# Altium footprint library PcbLib2.PcbLib: 32 footprints (part 1 of 2)
Each footprint in its own frame and in the unit in brackets; x right, y up, seen from the top. Pads: shape width x height; smd on the part's side, far side on the other; paste and mask are expansions set on the pad; w line width, h text height; cw(c..) or ccw(c..) is an arc to the next point about the centre after c.
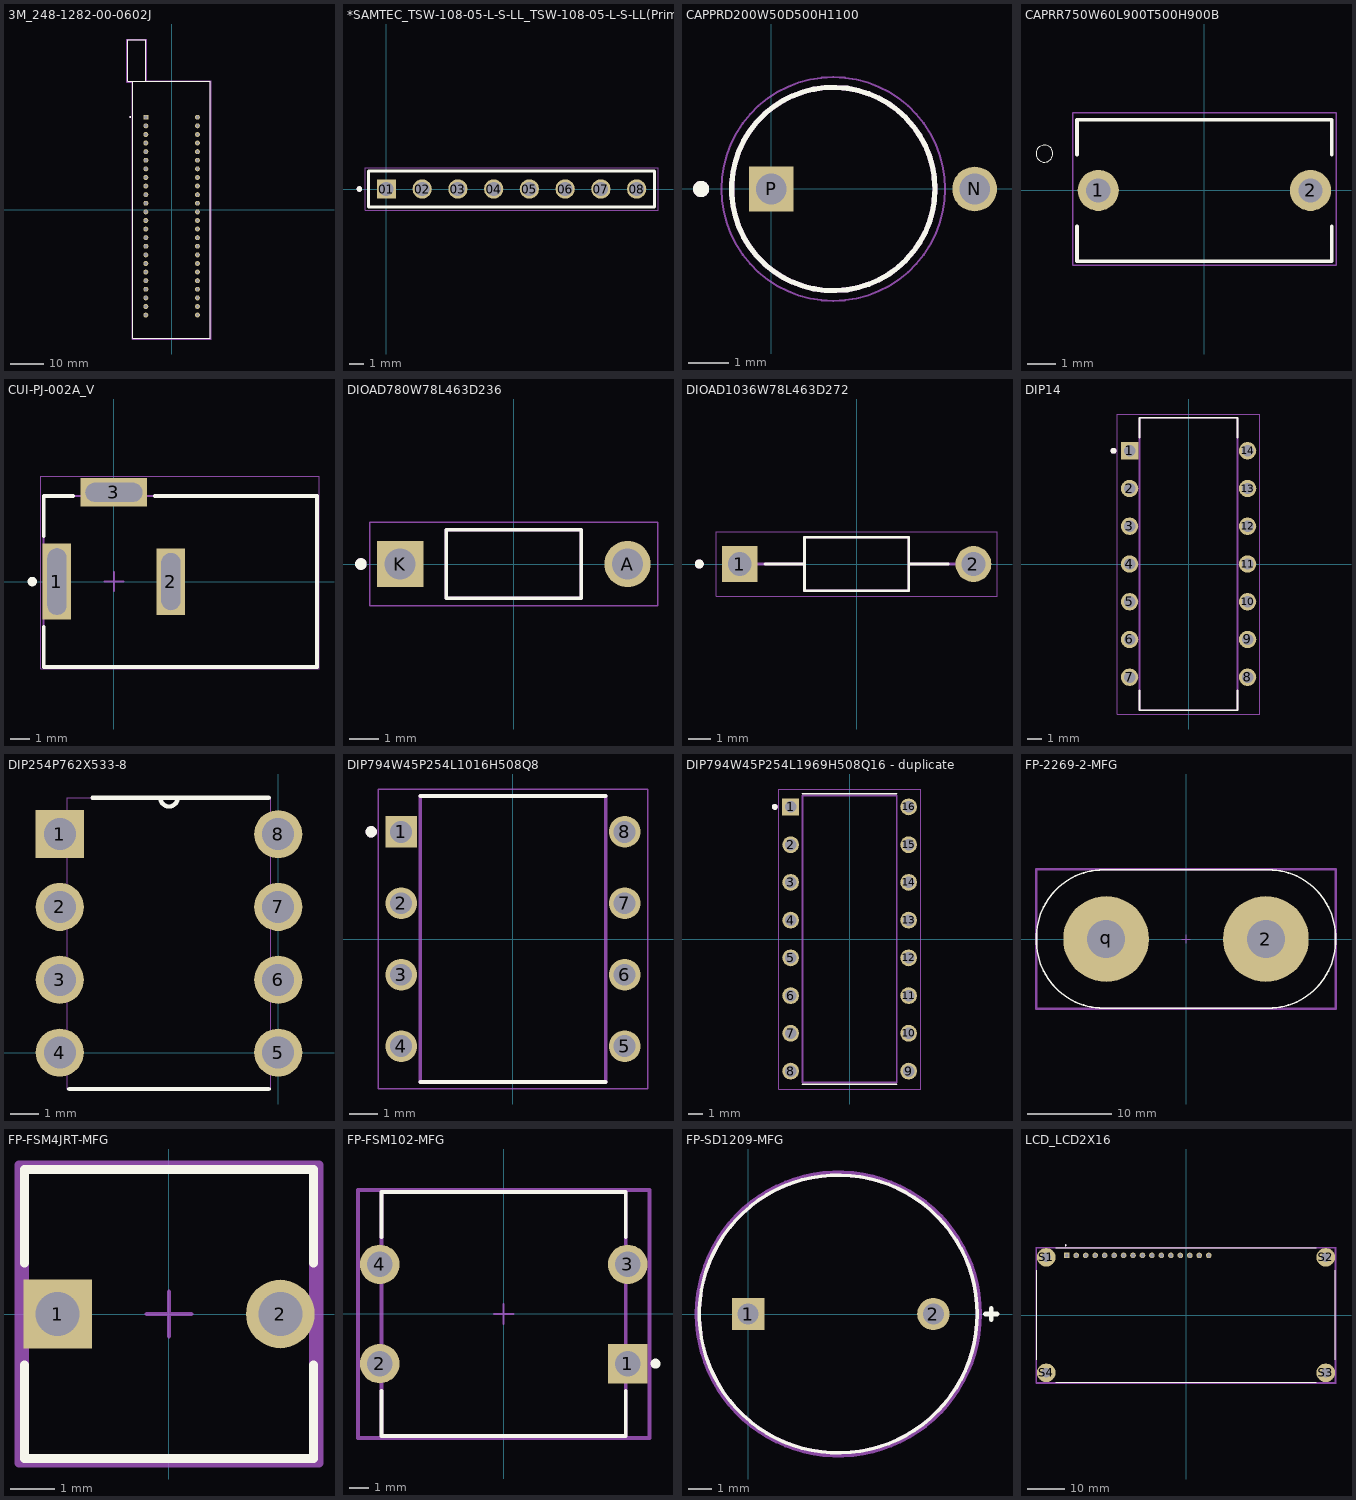
[diagram p0: the footprints below, top view; thin cyan lines are the x and y axes]

## 3M_248-1282-00-0602J [mm]
pads (48):
  rect 1.46x1.46 hole 0.97: 1(-7.62,27.34)
  round 1.46 hole 0.97: 2(-7.62,24.8) 3(-7.62,22.26) 4(-7.62,19.72) 5(-7.62,17.18) 6(-7.62,14.64) 7(-7.62,12.1) 8(-7.62,9.56) 9(-7.62,7.02) 10(-7.62,4.48) 11(-7.62,1.94) 12(-7.62,-0.6) 13(-7.62,-3.14) 14(-7.62,-5.68) 15(-7.62,-8.22) 16(-7.62,-10.76) 17(-7.62,-13.3) 18(-7.62,-15.84) 19(-7.62,-18.38) 20(-7.62,-20.92) 21(-7.62,-23.46) 22(-7.62,-26) 23(-7.62,-28.54) 24(-7.62,-31.08) 25(7.62,-31.08) 26(7.62,-28.54) 27(7.62,-26) 28(7.62,-23.46) 29(7.62,-20.92) 30(7.62,-18.38) 31(7.62,-15.84) 32(7.62,-13.3) 33(7.62,-10.76) 34(7.62,-8.22) 35(7.62,-5.68) 36(7.62,-3.14) 37(7.62,-0.6) 38(7.62,1.94) 39(7.62,4.48) 40(7.62,7.02) 41(7.62,9.56) 42(7.62,12.1) 43(7.62,14.64) 44(7.62,17.18) 45(7.62,19.72) 46(7.62,22.26) 47(7.62,24.8) 48(7.62,27.34)
Top Overlay:
  circle w0.2: c-12.2,27.4 r0.1
  lines w0.127: -7.625,37.9 -7.625,50.2 -13,50.2 -13,37.9 -11.45,37.9 ; -11.45,37.9 11.45,37.9 11.45,-37.9 -11.45,-37.9 -11.45,37.9
Mechanical 13:
  circle w0.2: c-12.2,27.4 r0.1
  lines w0.127: -11.45,37.9 -7.625,37.9 ; -11.45,37.9 -11.45,-37.9 11.45,-37.9 11.45,37.9 -7.625,37.9 ; -11.45,37.9 -13,37.9 -13,50.2 -7.625,50.2 -7.625,37.9
Mechanical 15:
  lines w0.05: -13.25,37.65 -11.7,37.65 -11.7,-38.15 11.7,-38.15 11.7,38.15 -7.375,38.15 -7.375,50.45 -13.25,50.45 -13.25,37.65
3D body "248-1282-00-0602J--3DModel-STEP-56544.STEP": height 23.62, standoff -2.79, extent -11.874,-37.338 11.874,38.354

## *SAMTEC_TSW-108-05-L-S-LL_TSW-108-05-L-S-LL(Primary) [mm]
pads (8):
  rect 1.37x1.37 hole 1.02: 01(0,0)
  round 1.37 hole 1.02: 02(2.54,0) 03(5.08,0) 04(7.62,0) 05(10.16,0) 06(12.7,0) 07(15.24,0) 08(17.78,0)
Top Overlay:
  circle w0.2: c-1.92,0 r0.1
  lines w0.2: -1.27,-1.27 19.05,-1.27 19.05,1.27 -1.27,1.27 -1.27,-1.27
Mechanical 4:
  circle w0.2: c-1.92,0 r0.1
  circle w0.2: c-1.92,0 r0.1
  lines w0.1: -1.27,-1.27 -1.27,1.27 ; -1.27,-1.27 19.05,-1.27 ; -1.27,-1.27 -1.27,1.27 ; -1.27,-1.27 -1.27,1.27 ; -1.27,-1.27 19.05,-1.27 ; -1.27,-1.27 -1.27,1.27 ; -1.27,1.27 19.05,1.27 ; -1.27,1.27 19.05,1.27 ; -1.27,1.27 19.05,1.27 ; -1.27,1.27 19.05,1.27 ; 19.05,-1.27 19.05,1.27 ; 19.05,-1.27 19.05,1.27 ; 19.05,-1.27 19.05,1.27 ; 19.05,-1.27 19.05,1.27
Mechanical 16:
  lines w0.05: -1.52,-1.52 19.3,-1.52 19.3,1.52 -1.52,1.52 -1.52,-1.52
3D body "TSW-108-05-L-S-LL.stp": height 5.21, standoff -3.3, extent -1.27,-1.27 19.177,1.27

## CAPPRD200W50D500H1100 [mm]
pads (2):
  round 1.1 hole 0.75: N(5,0)
  rect 1.1x1.1 hole 0.75: P(0,0)
Top Overlay:
  circle w0.2: c-1.726,0 r0.1
  circle w0.127: c1.524,0 r2.5
Mechanical 13:
  circle w0.2: c-1.726,0 r0.1
  circle w0.127: c1.524,0 r2.5
Mechanical 15:
  circle w0.05: c1.524,0 r2.75
3D body "step_temp.STEP": height 11, standoff -17, extent -0.976,-2.498 4.024,2.498

## CAPRR750W60L900T500H900B [mm]
pads (2):
  round 1.45 hole 0.85: 1(-3.75,0) 2(3.75,0)
Top Overlay:
  circle w0: c-5.65,1.3 r0.3
  lines w0.127: -4.5,-1.27 -4.5,-2.5 4.5,-2.5 4.5,-1.27 ; -4.5,1.27 -4.5,2.5 4.5,2.5 4.5,1.27
Mechanical 15:
  lines w0.05: -4.65,-2.65 4.65,-2.65 4.65,2.75 -4.65,2.75 -4.65,-2.65
3D body "DE2E3KY332MA3BM02F.STEP": height 12, standoff -22, extent -4.08,-2.818 4.08,3.175

## CUI-PJ-002A_V [mm] "THD, 3-Leads, Body 14.4x9mm, Height 11mm"
height 11
pads (3):
  rect 1.5x4 hole 1 slot 3.5 at 90 deg: 1(-3,0)
  rect 1.5x3.5 hole 1 slot 3 at 90 deg: 2(3,0)
  rect 3.5x1.5 hole 1 slot 3 at 0 deg: 3(0,4.7)
Top Overlay:
  circle w0.25: c-4.3,0 r0.125
  lines w0.2: -3.7,-2.4 -3.7,-4.5 10.7,-4.5 10.7,4.5 2.15,4.5 ; -3.7,2.4 -3.7,4.5 -2.15,4.5
Mechanical 13:
  lines w0.1: -3.7,-4.5 -3.7,4.5 10.7,4.5 10.7,-4.5 -3.7,-4.5
Mechanical 15:
  lines w0.05: -3.85,-4.6 -3.85,5.55 10.8,5.55 10.8,-4.6 -3.85,-4.6
  lines w0.1: -0.5,0 0.5,0 ; 0,-0.5 0,0.5
3D body "pj-002a.stp": height 11, standoff -3.5, extent -3.7,-4.5 10.7,4.9

## DIOAD780W78L463D236 [mm]
pads (2):
  round 1.59 hole 1.06: A(3.905,0)
  rect 1.59x1.59 / inner round 1.59 / far side rect 1.59x1.59 hole 1.06: K(-3.905,0)
Top Overlay:
  circle w0.2: c-5.25,0 r0.1
  lines w0.127: -2.318,-1.18 -2.318,1.18 2.318,1.18 2.318,-1.18 -2.318,-1.18
Mechanical 13:
  circle w0.2: c-5.25,0 r0.1
  lines w0.127: -2.318,-1.18 -2.318,1.18 2.318,1.18 2.318,-1.18 -2.318,-1.18
Mechanical 15:
  lines w0.05: -4.949,-1.43 4.949,-1.43 4.949,1.43 -4.949,1.43 -4.949,-1.43
3D body "step_temp.STEP": height 2.69, standoff -21.77, extent -4.458,-1.346 6.49,1.346

## DIOAD1036W78L463D272 [mm]
height 2.72
pads (2):
  rect 1.59x1.59 / inner round 1.59 / far side rect 1.59x1.59 hole 1.06: 1(-5.18,0)
  round 1.59 hole 1.06: 2(5.18,0)
Top Overlay:
  circle w0.2: c-6.975,0 r0.1
  lines w0.127: -4.065,0 -2.315,0 ; 4.065,0 2.315,0 ; -2.315,0 -2.315,-1.188 2.315,-1.188 2.315,0 ; -2.315,0 -2.315,1.188 2.315,1.188 2.315,0
Mechanical 13:
  circle w0.2: c-6.975,0 r0.1
  lines w0.127: -5.18,0 -2.315,0 ; 5.18,0 2.315,0 ; -2.315,0 -2.315,-1.188 2.315,-1.188 2.315,0 ; -2.315,0 -2.315,1.188 2.315,1.188 2.315,0
Mechanical 15:
  lines w0.05: -6.225,-1.438 -6.225,1.438 6.225,1.438 6.225,-1.438 -6.225,-1.438
3D body "step_temp.STEP": height 2.72, standoff -21.88, extent -5.288,-1.36 5.288,1.36

## DIP14 [mm]
pads (14):
  rect 1.17x1.17 hole 0.77: 1(-3.97,7.62)
  round 1.17 hole 0.77: 2(-3.97,5.08) 3(-3.97,2.54) 4(-3.97,0) 5(-3.97,-2.54) 6(-3.97,-5.08) 7(-3.97,-7.62) 8(3.97,-7.62) 9(3.97,-5.08) 10(3.97,-2.54) 11(3.97,0) 12(3.97,2.54) 13(3.97,5.08) 14(3.97,7.62)
Top Overlay:
  circle w0.2: c-5.055,7.62 r0.1
  lines w0.127: -3.3,-8.525 -3.3,-9.845 3.3,-9.845 3.3,-8.525 ; -3.3,8.525 -3.3,9.845 3.3,9.845 3.3,8.525
Mechanical 13:
  circle w0.2: c-5.055,7.62 r0.1
  lines w0.127: -3.3,-9.845 3.3,-9.845 3.3,9.845 -3.3,9.845 -3.3,-9.845
Mechanical 15:
  lines w0.05: -4.805,-10.095 4.805,-10.095 4.805,10.095 -4.805,10.095 -4.805,-10.095
3D body "step_temp.STEP": height 5.08, standoff -3.17, extent -5.334,-9.398 5.588,9.906

## DIP254P762X533-8 [mil]
pads (8):
  rect 66x66 / inner round 66 / far side rect 66x66 hole 44: 1(-300,300)
  round 66 hole 44: 2(-300,200) 3(-300,100) 4(-300,0) 5(0,0) 6(0,100) 7(0,200) 8(0,300)
Top Overlay:
  lines w6: -287,-50 -13,-50 ; -255,350 -162,350 ; -13,350 -138,350 ; -162,350 ccw(c-150,350) -138,350 ; -162,350 -138,350
Mechanical 13:
  lines w0: -162,350 ccw(c-150,350) -138,350 ; -162,350 -138,350 ; -162,350 -290,350 -290,-50 -10,-50 -10,350 -138,350 ; -322,-22 -322,22 -290,22 -290,-22 -322,-22 ; -322,78 -322,122 -290,122 -290,78 -322,78 ; -322,178 -322,222 -290,222 -290,178 -322,178 ; -322,278 -322,322 -290,322 -290,278 -322,278 ; -10,-22 -10,22 22,22 22,-22 -10,-22 ; -10,78 -10,122 22,122 22,78 -10,78 ; -10,178 -10,222 22,222 22,178 -10,178 ; -10,278 -10,322 22,322 22,278 -10,278
3D body "step_temp.STEP": height 210, standoff -150, extent -306,-28.75 5,348.75

## DIP794W45P254L1016H508Q8 [mm]
pads (8):
  rect 1.13x1.13 hole 0.78: 1(-3.97,3.81)
  round 1.13 hole 0.78: 2(-3.97,1.27) 3(-3.97,-1.27) 4(-3.97,-3.81) 5(3.97,-3.81) 6(3.97,-1.27) 7(3.97,1.27) 8(3.97,3.81)
Top Overlay:
  circle w0.2: c-5.035,3.81 r0.1
  lines w0.127: -3.3,-5.08 3.3,-5.08 ; -3.3,5.08 3.3,5.08
Mechanical 13:
  circle w0.2: c-5.035,3.81 r0.1
  lines w0.127: -3.3,-5.08 3.3,-5.08 3.3,5.08 -3.3,5.08 -3.3,-5.08
Mechanical 15:
  lines w0.05: -4.785,-5.33 4.785,-5.33 4.785,5.33 -4.785,5.33 -4.785,-5.33
3D body "LM741CN_NOPB.STEP": height 5.08, standoff -3.18, extent -4.349,-4.668 3.841,4.922

## DIP794W45P254L1969H508Q16 - duplicate [mm]
pads (16):
  rect 1.13x1.13 / inner round 1.13 / far side rect 1.13x1.13 hole 0.78: 1(-3.97,8.89)
  round 1.13 hole 0.78: 2(-3.97,6.35) 3(-3.97,3.81) 4(-3.97,1.27) 5(-3.97,-1.27) 6(-3.97,-3.81) 7(-3.97,-6.35) 8(-3.97,-8.89) 9(3.97,-8.89) 10(3.97,-6.35) 11(3.97,-3.81) 12(3.97,-1.27) 13(3.97,1.27) 14(3.97,3.81) 15(3.97,6.35) 16(3.97,8.89)
Top Overlay:
  circle w0.2: c-5.035,8.89 r0.1
  lines w0.127: -3.175,-9.775 3.175,-9.775 ; -3.175,9.775 3.175,9.775
Mechanical 13:
  circle w0.2: c-5.035,8.89 r0.1
  lines w0.127: -3.175,-9.653 3.175,-9.653 3.175,9.653 -3.175,9.653 -3.175,-9.653
Mechanical 15:
  lines w0.05: -4.785,-10.095 4.785,-10.095 4.785,10.095 -4.785,10.095 -4.785,-10.095
3D body "step_temp.STEP": height 5.08, standoff -3.28, extent -3.845,-9.652 3.845,9.652

## FP-2269-2-MFG [mm]
pads (2):
  round 10.206 hole 4.5 paste-2539.97 mask+0: 2(9.525,0) q(-9.525,0)
Top Overlay:
  lines w0.2: -9.81,-8.25 cw(c-9.814,-0.25) -17.81,0 cw(c-9.814,0.25) -9.81,8.25 ; -9.78,-8.255 9.78,-8.255 ; -9.78,8.255 9.78,8.255 ; 9.81,-8.25 ccw(c9.814,-0.25) 17.81,0 ccw(c9.814,0.25) 9.81,8.25
Top 3D Body:
  lines w0.2: -17.78,-8.255 17.78,-8.255 17.78,8.255 -17.78,8.255 -17.78,-8.255
Top Courtyard:
  lines w0.2: -17.88,-8.355 17.88,-8.355 17.88,8.355 -17.88,8.355 -17.88,-8.355
Top Assembly:
  lines w0.2: -17.88,-8.355 17.88,-8.355 17.88,8.355 -17.88,8.355 -17.88,-8.355
  text ".Designator" at 0,0.188 h1
Top Component Center:
  lines w0.1: -0.5,0 0.5,0 ; 0,-0.5 0,0.5
3D body "Conn_Pomona_Electronics_2269-2_eec.STEP": height 0.25, standoff 0, extent -17.88,-8.355 17.88,8.355

## FP-FSM4JRT-MFG [mil]
pads (2):
  rect 60.65x60.65 hole 39 paste-99999 mask+0: 1(-98.5,0)
  round 60.65 hole 39 paste-99999 mask+0: 2(98.5,0)
Top Overlay:
  lines w7.87: -128,-45.09 -128,-128 128,-128 128,-45.09 ; -128,45.09 -128,128 128,128 128,45.09
Top 3D Body:
  lines w7.87: -128,-128 -128,128 128,128 128,-128 -128,-128
Top Courtyard:
  lines w7.87: -132.76,-131.94 -132.76,131.94 132.76,131.94 132.76,-131.94 -132.76,-131.94
Top Assembly:
  lines w7.87: -132.76,-131.94 -132.76,131.94 132.76,131.94 132.76,-131.94 -132.76,-131.94
  text ".Designator" at 0,7.39 h39.37
Top Component Center:
  lines w3.94: -19.68,0 19.68,0 ; 0,-19.68 0,19.68
3D body "Switch_TE_Connectivity_FSM4JRT_eec.STEP": height 10, standoff 0, extent -132.76,-131.94 132.76,131.94

## FP-FSM102-MFG [mm]
pads (4):
  rect 1.99x1.99 hole 1.29 paste-2539.97 mask+0: 1(6.25,-2.5)
  round 1.99 hole 1.29 paste-2539.97 mask+0: 2(-6.25,-2.5) 3(6.25,2.5) 4(-6.25,2.5)
Top Overlay:
  circle w0.25: c7.65,-2.5 r0.125
  lines w0.2: -6.15,-3.87 -6.15,-6.15 6.15,-6.15 6.15,-3.87 ; -6.15,3.87 -6.15,6.15 6.15,6.15 6.15,3.87
Top 3D Body:
  lines w0.2: -6.15,-6.15 -6.15,6.15 6.15,6.15 6.15,-6.15 -6.15,-6.15
Top Courtyard:
  lines w0.2: -7.345,-6.25 -7.345,6.25 7.345,6.25 7.345,-6.25 -7.345,-6.25
Top Assembly:
  lines w0.2: -7.345,-6.25 -7.345,6.25 7.345,6.25 7.345,-6.25 -7.345,-6.25
  text ".Designator" at 0,0.188 h1
Top Component Center:
  lines w0.1: -0.5,0 0.5,0 ; 0,-0.5 0,0.5
3D body "Switch_TE_Connectivity_FSM102_eec.STEP": height 0.25, standoff 0, extent -7.345,-6.25 7.345,6.25

## FP-SD1209-MFG [mm]
pads (2):
  rect 1.4x1.4 hole 0.9 paste-1000 mask+0: 1(0,0)
  round 1.4 hole 0.9 paste-1000 mask+0: 2(8,0)
Top Overlay:
  circle w0.15: c3.897,0 r6
  lines w0.2: 10.247,0 10.747,0 ; 10.497,-0.25 10.497,0.25
Top 3D Body:
  circle w0.15: c3.897,0 r6
Top Courtyard:
  lines w0.2: -2.203,0 ccw(c3.897,0) 9.997,0 ccw(c3.897,0) -2.203,0
Top Assembly:
  text ".Designator" at 3.897,0.188 h1
3D body "Speak_TDK_SD1209T5-A1_eec.STEP": height 0.25, standoff 0, extent -2.203,-6.1 9.997,6.1

## LCD_LCD2X16 [mm]
pads (20):
  rect 1.508x1.508 hole 1: 1(-32,16)
  round 1.508 hole 1: 2(-29.46,16) 3(-26.92,16) 4(-24.38,16) 5(-21.84,16) 6(-19.3,16) 7(-16.76,16) 8(-14.22,16) 9(-11.68,16) 10(-9.14,16) 11(-6.6,16) 12(-4.06,16) 13(-1.52,16) 14(1.02,16) 15(3.56,16) 16(6.1,16)
  round 5 hole 2.5: S1(-37.5,15.5) S2(37.5,15.5) S3(37.5,-15.5) S4(-37.5,-15.5)
Top Overlay:
  circle w0.2: c-32.3,18.7 r0.1
  lines w0.127: -40,-12 -40,12 ; -35,-18 35,-18 ; -35,18 35,18 ; 40,-12 40,12
Mechanical 13:
  circle w0.2: c-32.3,18.7 r0.1
  lines w0.127: -40,-18 40,-18 40,18 -40,18 -40,-18
Mechanical 15:
  lines w0.05: -40.25,-18.25 -40.25,18.25 40.25,18.25 40.25,-18.25 -40.25,-18.25
3D body "LCD2X16--3DModel-STEP-56544.STEP": height 7, standoff -3, extent -40.005,-18.034 39.995,17.966